# Altium integrated library 3-1734592-7.IntLib: 1 symbol
Pins are listed as number, name and electrical type; pins without a type are passive.

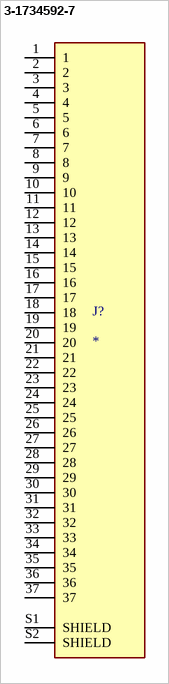
[diagram p0: symbol 3-1734592-7]

## 3-1734592-7
designator J?
Conn FPC Connector SKT 37 POS 0.5mm Solder RA SMD T/R; MP: 3-1734592-7; MF: TE Connectivity; SnapEDA_Link: https://www.snapeda.com/parts/3-1734592-7/TE%20Connectivity/view-part/4788466/?ref=snap; Package: None; DigiKey-Purchase-URL: https://snapeda.com/shop?store=DigiKey&id=4788466; Availability: Unavailable; Price: None; Value: *
footprint TE_3-1734592-7
pins: 1, 2, 3, 4, 5, 6, 7, 8, 9, 10, 11, 12, 13, 14, 15, 16, 17, 18, 19, 20, 21, 22, 23, 24, 25, 26, 27, 28, 29, 30, 31, 32, 33, 34, 35, 36, 37, S1 SHIELD, S2 SHIELD